# Altium schematic symbol library SnapEDAsch.SchLib: 1 symbol
Pins are listed as number, name and electrical type; pins without a type are passive.

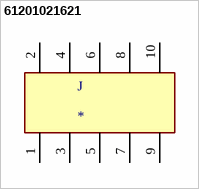
[diagram p0: symbol 61201021621]

## 61201021621
designator J
Connector Header Through Hole 10 position 0.100 _2.54mm_; MP: 61201021621; MF: Wurth Electronics; Price: None; Package: None; Value: *; Availability: Unavailable; SnapEDA_Link: https://www.snapeda.com/parts/61201021621/Wurth%20Electronics%20Inc./view-part/1156232/?ref=snap
footprint 61201021621
pins: 1, 2, 3, 4, 5, 6, 7, 8, 9, 10